# EAGLE library part PINHD2X10 (library b0f)
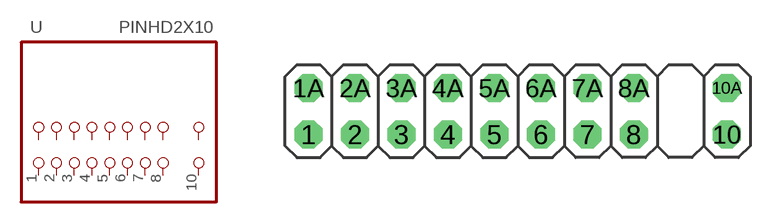
[diagram p1: symbol with the pads of 2X10; footprint 2X10]

Designator prefix -

## PINHD2X10  [2X10]
1  1  pas
1A  2  pas
2  3  pas
2A  4  pas
3  5  pas
3A  6  pas
4  7  pas
4A  8  pas
5  9  pas
5A  10  pas
6  11  pas
6A  12  pas
7  13  pas
7A  14  pas
8  15  pas
8A  16  pas
10  19  pas
10A  20  pas

## Footprint 2X10 (pad centres in mm)
drill 1.016 octagon: 1 -16.51,-1.27; 1A -16.51,1.27; 2 -13.97,-1.27; 2A -13.97,1.27; 3 -11.43,-1.27; 3A -11.43,1.27; 4 -8.89,-1.27; 4A -8.89,1.27; 5 -6.35,-1.27; 5A -6.35,1.27; 6 -3.81,-1.27; 6A -3.81,1.27; 7 -1.27,-1.27; 7A -1.27,1.27; 8 1.27,-1.27; 8A 1.27,1.27; 10 6.35,-1.27; 10A 6.35,1.27